# Altium schematic symbol library SLO1040H470MTT.SchLib: 1 symbol
Pins are listed as number, name and electrical type; pins without a type are passive.

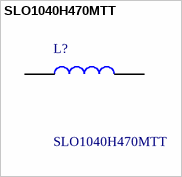
[diagram p0: symbol SLO1040H470MTT]

## SLO1040H470MTT
designator L?
SMD,10.8x10x4mm Power Inductors RoHS; Manufacturer_Name: Sunltech Tech; Geometry.Height: 4mm; Manufacturer_Part_Number: SLO1040H470MTT; Mouser Part Number: *; Mouser Price/Stock: *; Arrow Part Number: *; Arrow Price/Stock: *; Datasheet Link: https://datasheet.lcsc.com/szlcsc/1809291208_Sunltech-Tech-SLO1040H470MTT_C182153.pdf
footprint INDPM108100X400N
pins: 1, 2